# Altium schematic symbol library Кнопки.SchLib: 9 symbols
Pins are listed as number, name and electrical type; pins without a type are passive.

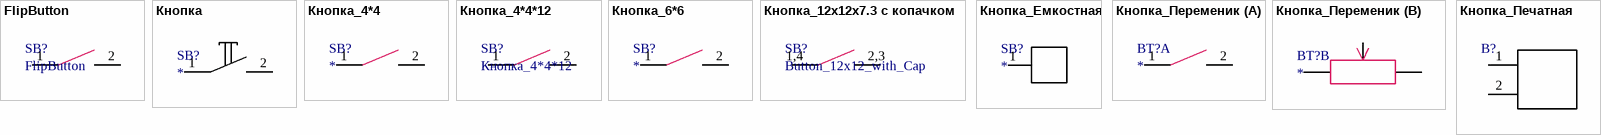
[diagram p0: symbols FlipButton to Кнопка_Печатная]

## FlipButton
designator SB?
footprint FlipButton12mm
pins: 1, 2

## Кнопка
designator SB?
pins: 1, 2

## Кнопка_4*4
designator SB?
footprint Button_4x4
pins: 1, 2

## Кнопка_4*4*12
designator SB?
footprint Button_6x6x12
pins: 1, 2

## Кнопка_6*6
designator SB?
footprint Button_6x6
footprint BUTTON_6x6_r
pins: 1, 2

## Кнопка_12x12x7.3 с копачком
designator SB?, comment Button_12x12_with_Cap
footprint Button_12x12x7_3_Cap
pins: 1,4 1, 2,3 2

## Кнопка_Емкостная
designator SB?
pins: 1

## Кнопка_Переменик
designator BT?
footprint ButtonPot
part A pins: 1, 2
part B pins: 1, 3, 4

## Кнопка_Печатная
designator B?  (value not drawn)
Sensor; Пояснение: Сенсор имеет обозначение B
pins: 1, 2